# Altium schematic symbol library Capacitors.SchLib: 2 symbols
Pins are listed as number, name and electrical type; pins without a type are passive.

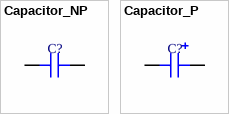
[diagram p0: symbols Capacitor_NP to Capacitor_P]

## Capacitor_NP
designator C?
pins: 1, 2

## Capacitor_P
designator C?
Dielectric: *; Parameter 3: *
pins: A, C